# Altium footprint library Fuse 1206 2A.PcbLib: 1 footprints
Each footprint in its own frame and in the unit in brackets; x right, y up, seen from the top. Pads: shape width x height; smd on the part's side, far side on the other; paste and mask are expansions set on the pad; w line width, h text height; cw(c..) or ccw(c..) is an arc to the next point about the centre after c.
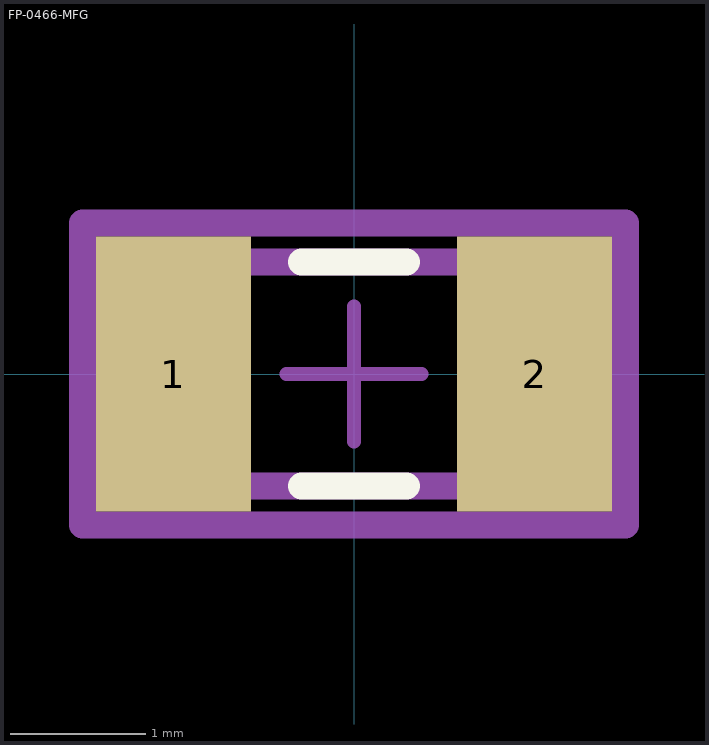
[diagram p0: the footprint, top view; thin cyan lines are the x and y axes]

## FP-0466-MFG [mil]
pads (2):
  rect 45x80 smd paste+0 mask+0: 1(-52.5,0) 2(52.5,0)
Top Overlay:
  lines w7.87: -15.24,-32.5 15.24,-32.5 ; -15.24,32.5 15.24,32.5
Top Assembly:
  lines w7.87: -78.94,-43.94 -78.94,43.94 78.94,43.94 78.94,-43.94 -78.94,-43.94
  text ".Designator" at 0,7.43 h39.37
Top 3D Body:
  lines w7.87: -65,-32.5 -65,32.5 65,32.5 65,-32.5 -65,-32.5
Top Courtyard:
  lines w7.87: -78.94,-43.94 -78.94,43.94 78.94,43.94 78.94,-43.94 -78.94,-43.94
Top Component Center:
  lines w3.94: -19.68,0 19.68,0 ; 0,-19.68 0,19.68
3D body "Fuse_Littelfuse_0466002_NR_eec.STEP": height 10, standoff 0, extent -78.94,-43.94 78.94,43.94